# EAGLE library part BQ24125RHLR (library BQ24125)
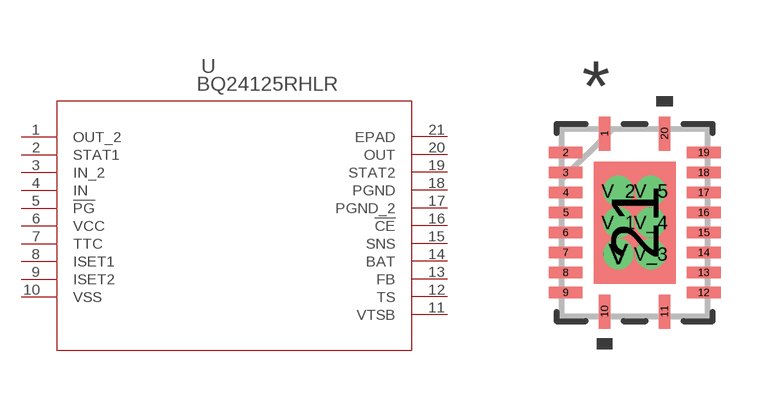
[diagram p0: symbol with the pads of RHL20_2P05X3P05; footprint RHL20_2P05X3P05]

Designator prefix U

## BQ24125RHLR (DATASHEET_URL: http://www.ti.com/lit/gpn/BQ24125; DESCRIPTION: Single Chip Switchmode Li-Ion and Li-Polymer Charge Management IC with Enhanced EMI Performance; FAMILY_NAME: BATTERY CHARGE MANAGEMENT; GENERIC_PART_NUMBER: BQ24125; INDUSTRY_STD_PKG_TYPE: QFN; MANUFACTURER: Texas Instruments; PACKAGE_DESIGNATOR: RHL; PIN_COUNT: 20)  [RHL20_2P05X3P05]
1  OUT_2  out
2  STAT1  out
3  IN_2  in
4  IN  in
5  !PG  out
6  VCC  pwr
7  TTC  in
8  ISET1
9  ISET2
10  VSS  pwr
11  VTSB  out
12  TS  in
13  FB  in
14  BAT  in
15  SNS  in
16  !CE  in
17  PGND_2  pwr
18  PGND  pwr
19  STAT2  out
20  OUT  out
21  EPAD  pas

## Footprint RHL20_2P05X3P05 (pad centres in mm)
smd 0.28 x 0.85: 1 -0.75,2.225; 10 -0.75,-2.225; 11 0.75,-2.225; 20 0.75,2.225
smd 0.85 x 0.28: 2 -1.725,1.75; 3 -1.725,1.25; 4 -1.725,0.75; 5 -1.725,0.25; 6 -1.725,-0.25; 7 -1.725,-0.75; 8 -1.725,-1.25; 9 -1.725,-1.75; 12 1.725,-1.75; 13 1.725,-1.25; 14 1.725,-0.75; 15 1.725,-0.25; 16 1.725,0.25; 17 1.725,0.75; 18 1.725,1.25; 19 1.725,1.75
smd 2.05 x 3.05: 21 0,0
drill 0.254 pad 0.508: V -0.406,-0.787; V_1 -0.406,0; V_2 -0.406,0.787; V_3 0.406,-0.787; V_4 0.406,0; V_5 0.406,0.787